# Altium schematic symbol library 3Delight.SCHLIB: 190 symbols (part 2 of 2)
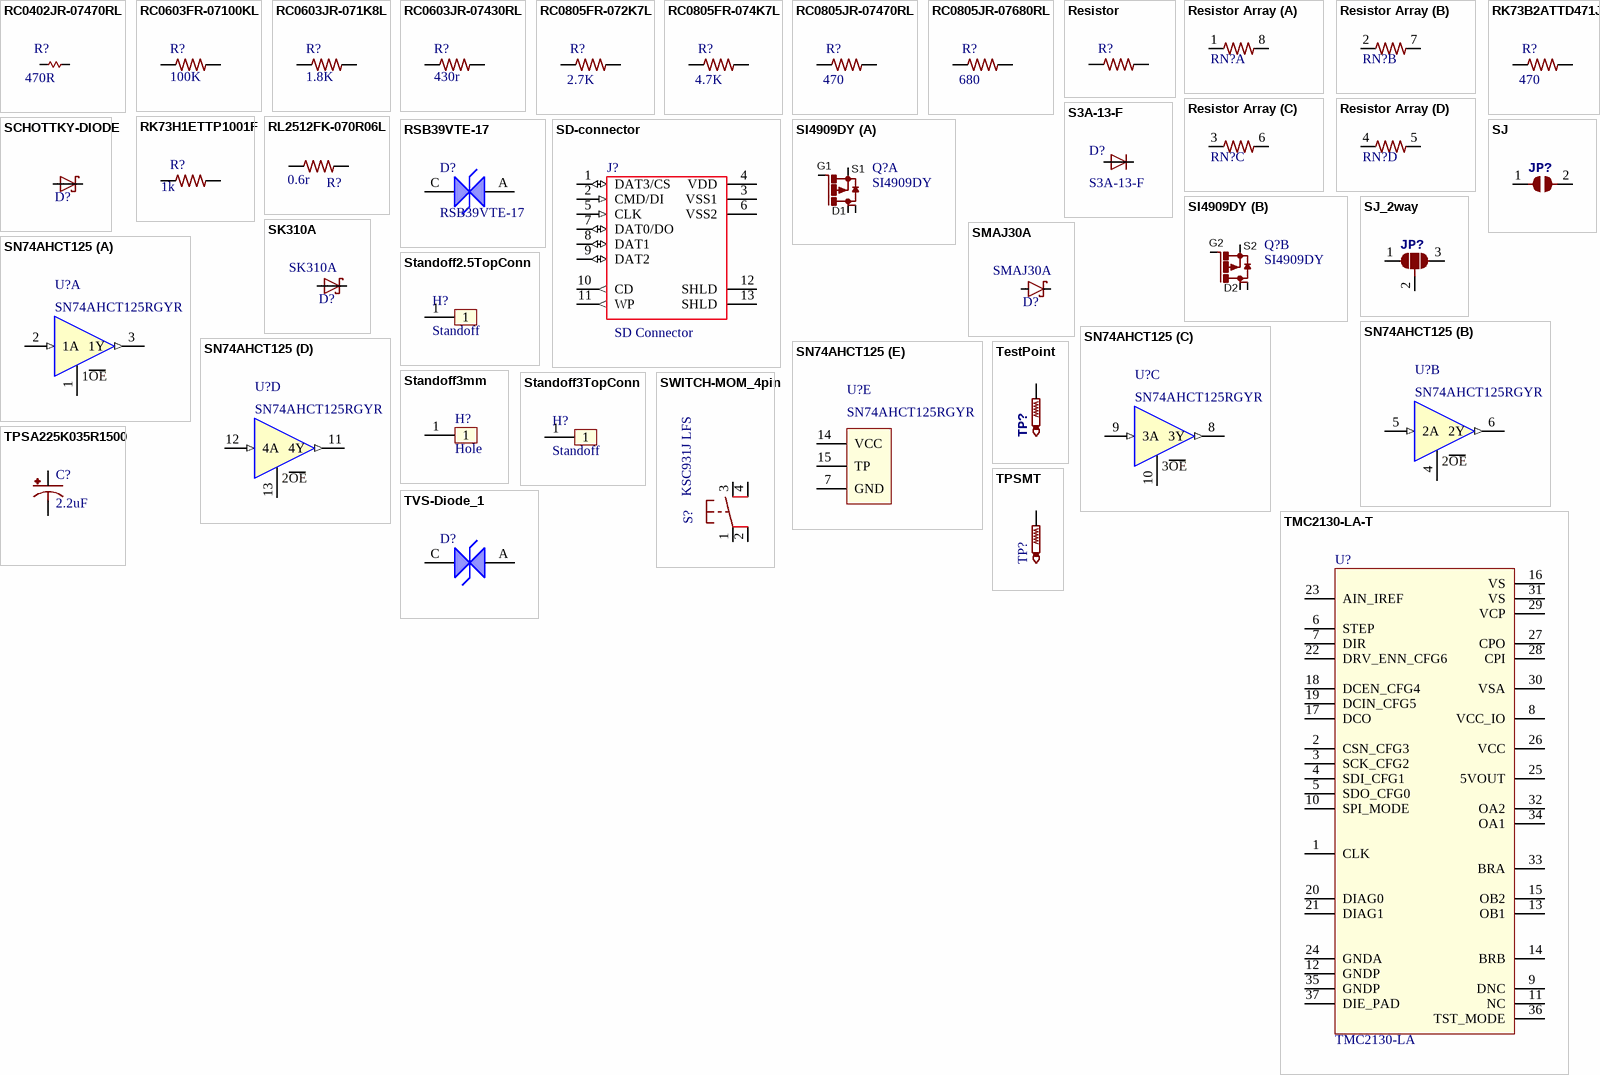
[diagram p7: symbols RC0402JR-07470RL to TVS-Diode_1]

## SD-connector
designator J?, comment SD Connector
footprint SD-Connector
pins: 1 DAT3/CS (io), 2 CMD/DI (in), 3 VSS1 (power), 4 VDD (power), 5 CLK (in), 6 VSS2 (power), 7 DAT0/DO (io), 8 DAT1 (io), 9 DAT2 (io), 10 CD (out), 11 WP (out), 12 SHLD (power), 13 SHLD (power)

## SI4909DY
designator Q?
FET DUAL P-CHAN SOIC-8 40V 8A; Manufacturer: VISHAY; ManufacturerPartNumber: SI4909DY-T1-GE3; LastRevisionNote: ImportComponents; Published: 23-Apr-2014; Publisher: UltiMachine; LastRevisionDate: 23-Apr-2014
footprint SOIC8
part A pins: 1 S1, 2 G1, 7 D1, 8 D1
part B pins: 3 S2, 4 G2, 5 D2, 6 D2

## SJ
designator JP?
SMD solder jumper; LastRevisionNote: ImportComponents; Published: 23-Apr-2014; Publisher: UltiMachine; LastRevisionDate: 23-Apr-2014
footprint SJ
pins: 1, 2

## SJ_2way
designator JP?
SMD solder jumper; LastRevisionNote: ImportComponents; Published: 23-Apr-2014; Publisher: UltiMachine; LastRevisionDate: 23-Apr-2014
footprint SJ-2way
pins: 1, 2, 3

## SK310A
designator D?
DIODE Schottky 3A SMA; LastRevisionNote: ImportComponents; Published: 23-Apr-2014; Publisher: UltiMachine; LastRevisionDate: 23-Apr-2014; ManufacturerPartNumber: SK310A
footprint SMA-SM
pins: A, C

## SMAJ30A
designator D?
DIODE TVS 30V SMA; LastRevisionNote: ImportComponents; Published: 23-Apr-2014; Publisher: UltiMachine; LastRevisionDate: 23-Apr-2014; ManufacturerPartNumber: SMAJ30A
footprint SMA-SM
pins: A, C

## SN74AHCT125
designator U?, comment SN74AHCT125RGYR
Quadruple Bus Buffer Gates With 3-State Outputs 14-VQFN -40 to 125
footprint QFN50P350X350X100_RGY_S-PVQFN-N14 (QFN, 14-Leads, Body 3.50x3.50mm, Pitch 1.50mm/0.50mm, Thermal Pad 2.05x2.05mm, IPC High Density)
part A pins: 1 1OE (power), 2 1A (in), 3 1Y (out)
part B pins: 4 2OE (power), 5 2A (in), 6 2Y (out)
part C pins: 8 3Y (out), 9 3A (in), 10 3OE (power)
part D pins: 11 4Y (out), 12 4A (in), 13 4OE (power)
part E pins: 7 GND (power), 14 VCC (power), 15 TP (power)

## Standoff2.5TopConn
designator H?, comment Standoff  (no BOM)
Mechanical - Top connect
footprint Standoff2.5mmTopConn
pins: 1 (power)

## Standoff3mm
designator H?, comment Hole  (no BOM)
Mechanical - Top connect
footprint Standoff3mm
pins: 1 (power)

## Standoff3TopConn
designator H?, comment Standoff  (no BOM)
Mechanical - Top connect
footprint Standoff3mmTopConn
pins: 1 (power)

## SWITCH-MOM_4pin
designator S?, comment KSC931J LFS
Momentary Switch Single Pole Single Throw; Published: 23-Apr-2014; Publisher: UltiMachine; ManufacturerPartNumber: KSC931J LFS
footprint SWITCH-KSC-Jbend
pins: 1 P, 2 P, 3, 4

## TestPoint
designator TP?  (no BOM)
Test Point; LastRevisionNote: ImportComponents; Published: 23-Apr-2014; Publisher: UltiMachine; LastRevisionDate: 23-Apr-2014
footprint TP1-27TH
footprint TP1-27
pins: TP

## TMC2130-LA-T
designator U?, comment TMC2130-LA
footprint QFN36-50P500X600X900_HS-37N (QFN, 36-Leads, Body 5.00x6.00mm, Pitch 0.50mm, Thermal Pad 3.60x4.10mm, IPC Medium Density)
pins: 1 CLK, 2 CSN_CFG3, 3 SCK_CFG2, 4 SDI_CFG1, 5 SDO_CFG0, 6 STEP, 7 DIR, 8 VCC_IO, 9 DNC, 10 SPI_MODE, 11 NC, 12 GNDP, 13 OB1, 14 BRB, 15 OB2, 16 VS, 17 DCO, 18 DCEN_CFG4, 19 DCIN_CFG5, 20 DIAG0, 21 DIAG1, 22 DRV_ENN_CFG6, 23 AIN_IREF, 24 GNDA, 25 5VOUT, 26 VCC, 27 CPO, 28 CPI, 29 VCP, 30 VSA, 31 VS, 32 OA2, 33 BRA, 34 OA1, 35 GNDP, 36 TST_MODE, 37 DIE_PAD

## TPSA225K035R1500
designator C?, comment 2.2uF
Capacitor Polarized; ManufacturerPartNumber: TPSA225K035R1500; LastRevisionNote: ImportComponents; Published: 23-Apr-2014; Publisher: UltiMachine; LastRevisionDate: 23-Apr-2014; VALUE: 2.2uF
footprint E3,5-8 (Footprint not found)
footprint C1206Tantalum (Chip Capacitor, 2-Leads, Body 3.20x1.60mm, IPC Medium Density)
footprint C12,5-5
pins: 1 +, 2 -

## TPSMT
designator TP?  (value not drawn)
Test Point Surface Mount; LastRevisionNote: ImportComponents; Published: 23-Apr-2014; Publisher: UltiMachine; LastRevisionDate: 23-Apr-2014
footprint B1,27
pins: TP

## TVS-Diode_1
designator D?
footprint SOD323-R
pins: A (power), C (power)

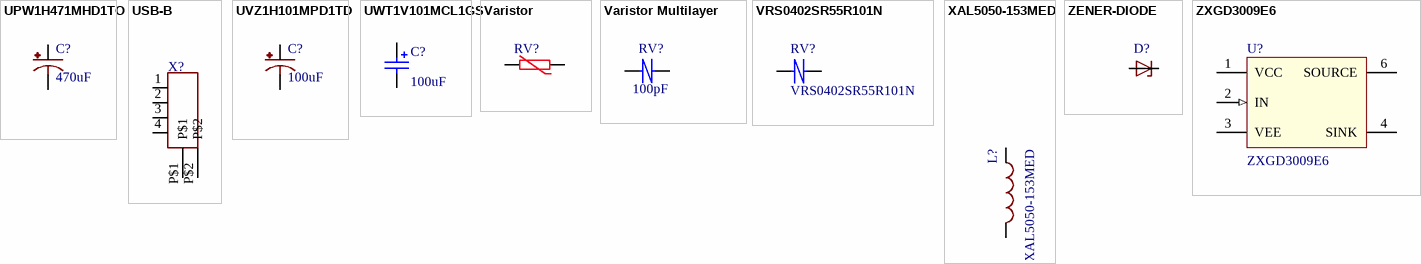
[diagram p6: symbols UPW1H471MHD1TO to ZXGD3009E6]

## UPW1H471MHD1TO
designator C?, comment 470uF
CAP ALU 470uF 50V 20%; ManufacturerPartNumber: UPW1H471MHD1TO; LastRevisionNote: ImportComponents; Published: 23-Apr-2014; Publisher: UltiMachine; LastRevisionDate: 23-Apr-2014; VALUE: 470uF
footprint C12,5-5
pins: 1 +, 2 -

## USB-B
designator X?
USB connector B PTH; LastRevisionNote: ImportComponents; Published: 23-Apr-2014; Publisher: UltiMachine; LastRevisionDate: 23-Apr-2014
footprint PN61729
pins: 1, 2, 3, 4, P$1, P$2

## UVZ1H101MPD1TD
designator C?, comment 100uF
CAP ALU 100uF 50V 20% 105C; ManufacturerPartNumber: UVZ1H101MPD1TD; LastRevisionNote: ImportComponents; Published: 23-Apr-2014; Publisher: UltiMachine; LastRevisionDate: 23-Apr-2014; VALUE: 100uF
footprint C3,5-8
pins: 1 +, 2 -

## UWT1V101MCL1GS
designator C?  value 100uF  (hidden comment: UWT1V101MCL1GS)
CAP ALUM 100UF 35V 20% SMD; Status: Active; Height: 7.70mm; Manufacture Part #: UWT1V101MCL1GS
simulation model CAP (Capacitor)
signal-integrity model Cap Pol
footprint CAP-ELEC-063063077 (6.3x6.3x7.7mm)
pins: 1, 2
1 alternate drawing of the same symbol

## Varistor
designator RV?
VAR; LastRevisionNote: ImportComponents; Published: 23-Apr-2014; Publisher: UltiMachine; LastRevisionDate: 23-Apr-2014
footprint R0402
footprint R0603
footprint R1206
signal-integrity model Model Name (Model Description)
simulation model Model Name (Model Description)
pins: 1, 2

## Varistor Multilayer
designator RV?  value 100pF  (hidden comment: Varistor Multilayer)
Multi-Layer Varistor; Published: 8-Jun-2000; LatestRevisionDate: 17-Jul-2002; LatestRevisionNote: Re-released for DXP Platform.; PackageReference: RAD-0.3; Publisher: Altium Limited; PackageDescription: Radial Cap, Thru-Hole; 2 Leads; 0.3 in Pin Spacing
footprint C0402
pins: 1, 2

## VRS0402SR55R101N
designator RV?
Multi-Layer Varistor; Value: 100pF; Published: 8-Jun-2000; LatestRevisionDate: 17-Jul-2002; LatestRevisionNote: Re-released for DXP Platform.; PackageReference: RAD-0.3; Publisher: Altium Limited; PackageDescription: Radial Cap, Thru-Hole; 2 Leads; 0.3 in Pin Spacing
footprint C0402
pins: 1, 2

## XAL5050-153MED
designator L?
IND 15uH 3.9A 20%; ManufacturerPartNumber: XAL5050-153MEB; LastRevisionNote: ImportComponents; Published: 23-Apr-2014; Publisher: UltiMachine; LastRevisionDate: 23-Apr-2014; Value: XAL5050-153MED
footprint XAL50xx-153 (Precision Wire Wound Inductor, 2-Leads, Body 5.28x5.48mm, IPC High Density)
pins: 1, 2

## ZENER-DIODE
designator D?
Z-Diode; LastRevisionNote: ImportComponents; Published: 23-Apr-2014; Publisher: UltiMachine; LastRevisionDate: 23-Apr-2014
footprint SOD323-R
pins: A, C

## ZXGD3009E6
designator U?
MOSFET DRVR 3A 1-OUT High Speed Non-Inv6-Pin SOT-26 T/R
footprint SOT26P285X140-6L (SOT26, 6-Leads, Body 3.00x2.85mm, Pitch 0.95mm, IPC High Density)
pins: 1 VCC (power), 2 IN (in), 3 VEE (power), 4 SINK (power), 6 SOURCE (power)